# Altium schematic symbol library Transistors.SchLib: 6 symbols
Pins are listed as number, name and electrical type; pins without a type are passive.

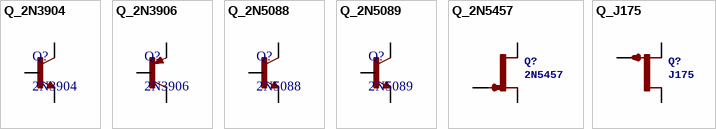
[diagram p0: symbols Q_2N3904 to Q_J175]

## Q_2N3904
designator Q?, comment 2N3904
Price: 0.01; Package: TO-92
footprint TO92
pins: 1 C, 2 B, 3 E

## Q_2N3906
designator Q?, comment 2N3906
Price: 0.01; Package: TO-92
footprint TO92
pins: 1 C, 2 B, 3 E

## Q_2N5088
designator Q?, comment 2N5088
Price: 0.02; Package: TO-92
footprint TO92
pins: 1 C, 2 B, 3 E

## Q_2N5089
designator Q?, comment 2N5089
Price: 0.02; Package: TO-92
footprint TO92
pins: 1 C, 2 B, 3 E

## Q_2N5457
designator Q?, comment 2N5457
Price: 0.2; Package: TO-92
footprint TO92
pins: 1 G, 2 S, 3 D

## Q_J175
designator Q?, comment J175
footprint TO92
pins: 1 S, 2 G, 3 D